# EAGLE library part TC2070 (library pie)
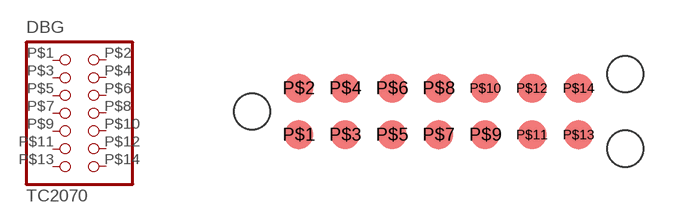
[diagram p21: symbol with the pads of TC2070; footprint TC2070]

Designator prefix DBG

## TC2070 (PIE-INT-REF-NUM: DNL)  [TC2070]
P$1  1  pas
P$2  2  pas
P$3  3  pas
P$4  4  pas
P$5  5  pas
P$6  6  pas
P$7  7  pas
P$8  8  pas
P$9  9  pas
P$10  10  pas
P$11  11  pas
P$12  12  pas
P$13  13  pas
P$14  14  pas

## Footprint TC2070 (pad centres in mm)
smd 0.787 x 0.787: P$1 -3.81,-0.635; P$2 -3.81,0.635; P$3 -2.54,-0.635; P$4 -2.54,0.635; P$5 -1.27,-0.635; P$6 -1.27,0.635; P$7 0,-0.635; P$8 0,0.635; P$9 1.27,-0.635; P$10 1.27,0.635; P$11 2.54,-0.635; P$12 2.54,0.635; P$13 3.81,-0.635; P$14 3.81,0.635
hole 0.991 at -5.08,0
hole 0.991 at 5.08,1.016
hole 0.991 at 5.08,-1.016